# Altium footprint library Transformer_EE85A.PcbLib: 1 footprints
Each footprint in its own frame and in the unit in brackets; x right, y up, seen from the top. Pads: shape width x height; smd on the part's side, far side on the other; paste and mask are expansions set on the pad; w line width, h text height; cw(c..) or ccw(c..) is an arc to the next point about the centre after c.
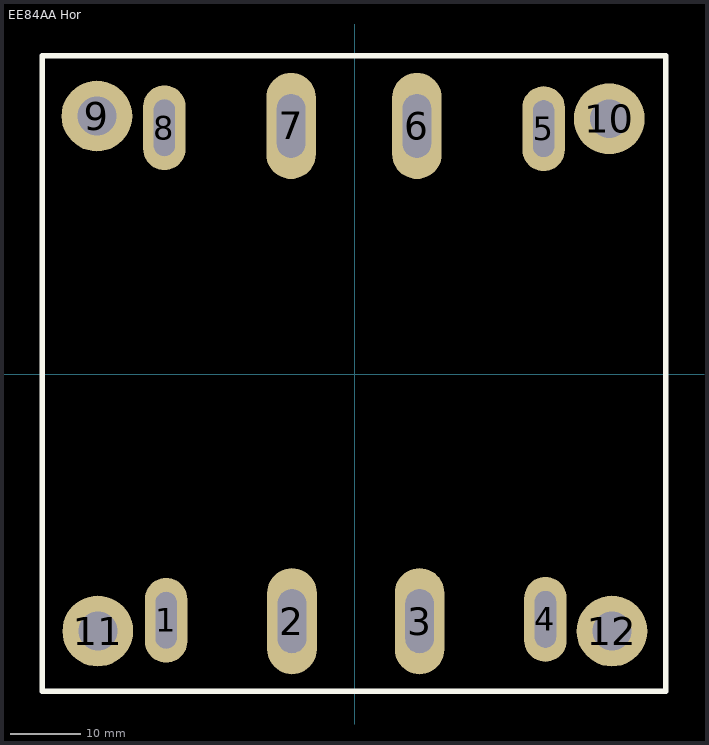
[diagram p0: the footprint, top view; thin cyan lines are the x and y axes]

## EE84AA Hor [mm]
pads (12):
  oval 6x12 hole 3 slot 8 at 90 deg: 1(-26.67,-34.798) 4(26.924,-34.671) 5(26.67,34.671) 8(-26.924,34.798)
  oval 7x15 hole 4 slot 9 at 90 deg: 2(-8.89,-34.925) 3(9.144,-34.925) 6(8.763,35.052) 7(-9.017,35.052)
  round 10 hole 5.5: 9(-36.449,36.449) 10(35.941,36.068) 11(-36.322,-36.322) 12(36.322,-36.322)
Top Overlay:
  lines w0.8: -44.196,-44.831 43.942,-44.831 43.942,44.958 -44.196,44.958 -44.196,-44.831
Bottom Overlay:
  lines w1: -44.196,-44.958 43.942,-44.958 43.942,44.831 -44.196,44.831 -44.196,-44.958
3D body "EE85AA HOR.STEP": height 66.25, standoff -8.25, extent -43.925,-44.7 43.925,44.7